# Altium footprint library Power Supply.PcbLib: 8 footprints
Each footprint in its own frame and in the unit in brackets; x right, y up, seen from the top. Pads: shape width x height; smd on the part's side, far side on the other; paste and mask are expansions set on the pad; w line width, h text height; cw(c..) or ccw(c..) is an arc to the next point about the centre after c.
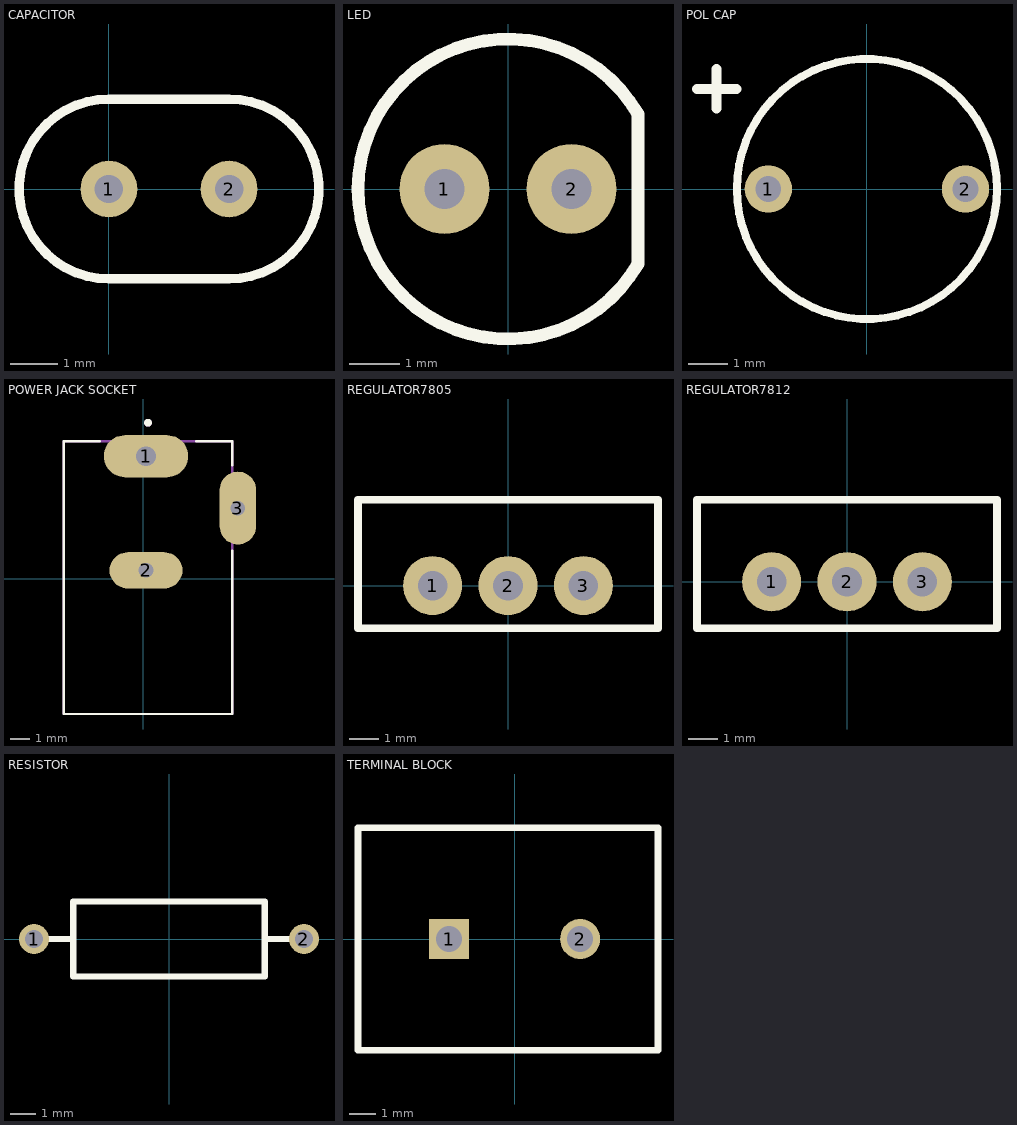
[diagram p0: the footprints below, top view; thin cyan lines are the x and y axes]

## CAPACITOR [mm] "capacitor"
pads (2):
  round 1.2 hole 0.6: 1(0,0) 2(2.54,0)
Top Overlay:
  lines w0.2: 0,-1.9 cw(c0,0) 0,1.9 2.54,1.9 cw(c2.54,0) 2.54,-1.9 0,-1.9
3D body "AR205F104K4R.STEP": height 6.08, standoff -24.4, extent -1.29,-1.587 3.79,1.588

## LED [mm] "led"
pads (2):
  round 1.8 hole 0.8: 1(-1.27,0) 2(1.27,0)
Top Overlay:
  lines w0.254: 2.598,-1.5 cw(c0,0) 2.598,1.5 2.598,-1.5
3D body "Download_STP_151033RS03000_rev1.stp": height 3.8, standoff -26.4, extent -1.95,-1.949 1.87,1.95

## POL CAP [mm] "polarized capacitor"
pads (2):
  round 1.2 hole 0.65: 1(-2.5,0) 2(2.5,0)
Top Overlay:
  circle w0.2: c0,0 r3.3
  lines w0.254: -4.31,2.54 -3.81,2.54 ; -3.81,2.04 -3.81,2.54 ; -3.81,3.04 -3.81,2.54 ; -3.31,2.54 -3.81,2.54
3D body "EEUEB1J100SB.STEP": height 12.5, standoff -15.5, extent -2.71,-2.497 2.79,2.498

## POWER JACK SOCKET [mm] "power  jack socket"
pads (3):
  oval 4.4x2.2 hole 1.02 square: 1(0.15,6.388)
  oval 3.8x1.9 hole 0.76 square: 2(0.15,0.433)
  oval 1.9x3.8 hole 0.76 square: 3(4.944,3.683)
Top Overlay:
  circle w0.2: c0.254,8.133 r0.1
  lines w0.127: -2.266,7.158 -4.146,7.158 -4.146,-7.057 4.654,-7.057 4.654,1.463 ; 2.774,7.158 4.654,7.158 4.654,5.903
Mechanical 13:
  circle w0.2: c0.254,8.133 r0.1
  lines w0.127: -4.146,-7.057 -4.146,-3.657 -4.146,6.443 -4.146,7.158 4.654,7.158 4.654,6.443 4.654,-3.657 4.654,-7.057 -4.146,-7.057
3D body "EJ508A--3DModel-STEP-56544.STEP": height 11.15, standoff -4, extent -4.4,-7.25 5.15,7.17

## REGULATOR7805 [mm] "regulator 5v"
pads (3):
  round 2 hole 1: 1(-2.55,0) 2(0,0) 3(2.55,0)
Top Overlay:
  lines w0.254: -5.073,-1.443 5.073,-1.443 5.073,2.903 -5.073,2.903 -5.073,-1.443
3D body "7805CV.STEP": height 19.21, standoff -9.68, extent -5.1,-1.487 5.1,3.013

## REGULATOR7812 [mm] "regulator 12v"
pads (3):
  round 2 hole 1: 1(-2.55,0) 2(0,0) 3(2.55,0)
Top Overlay:
  lines w0.254: -5.073,-1.573 5.073,-1.573 5.073,2.773 -5.073,2.773 -5.073,-1.573
3D body "L7812CV.STEP": height 19.68, standoff -9.22, extent -5.1,-1.65 5.1,2.85

## RESISTOR [mm] "resistor"
pads (2):
  round 1.2 hole 0.72: 1(-5.39,0) 2(5.39,0)
Top Overlay:
  lines w0.254: -4.85,0 -3.85,0 ; 3.825,0 4.825,0 ; -3.825,-1.5 -3.825,1.5 3.825,1.5 3.825,-1.5 -3.825,-1.5
3D body "RNC55H4500FPB14.STEP": height 2.69, standoff -34.52, extent -5.725,-1.345 5.725,1.345

## TERMINAL BLOCK [mm] "terminal block"
pads (2):
  rect 1.524x1.524 hole 1 square: 1(-2.5,0)
  round 1.524 hole 1 square: 2(2.5,0)
Top Overlay:
  lines w0.254: -5.973,-4.245 5.473,-4.245 5.473,4.245 -5.973,4.245 -5.973,-4.245
3D body "282836-2--3DModel-STEP-269445.STEP": height 10, standoff -3.5, extent -5.6,-4.1 5,4.1